# Altium integrated library TDA2050.IntLib: 1 symbol
Pins are listed as number, name and electrical type; pins without a type are passive.

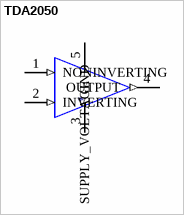
[diagram p0: symbol TDA2050]

## TDA2050
designator ?
Amplifier IC 1-Channel _Mono_ Class AB 5-PENTAWATT; MF: STMicroelectronics; MP: TDA2050; Price: None; Availability: Unavailable; Package: Pentawatt-5 NXP Semiconductors; SnapEDA_Link: https://www.snapeda.com/parts/TDA2050/STMicroelectronics/view-part/608082/?ref=snap; Value: *
footprint PENTAWATT
pins: 1 NONINVERTING (in), 2 INVERTING (in), 3 GND (power), 4 OUTPUT (out), 5 SUPPLY_VOLTAGE (power)